# Altium footprint library gost_lib_footpr.PcbLib: 34 footprints (part 2 of 3)
Each footprint in its own frame and in the unit in brackets; x right, y up, seen from the top. Pads: shape width x height; smd on the part's side, far side on the other; paste and mask are expansions set on the pad; w line width, h text height; cw(c..) or ccw(c..) is an arc to the next point about the centre after c.
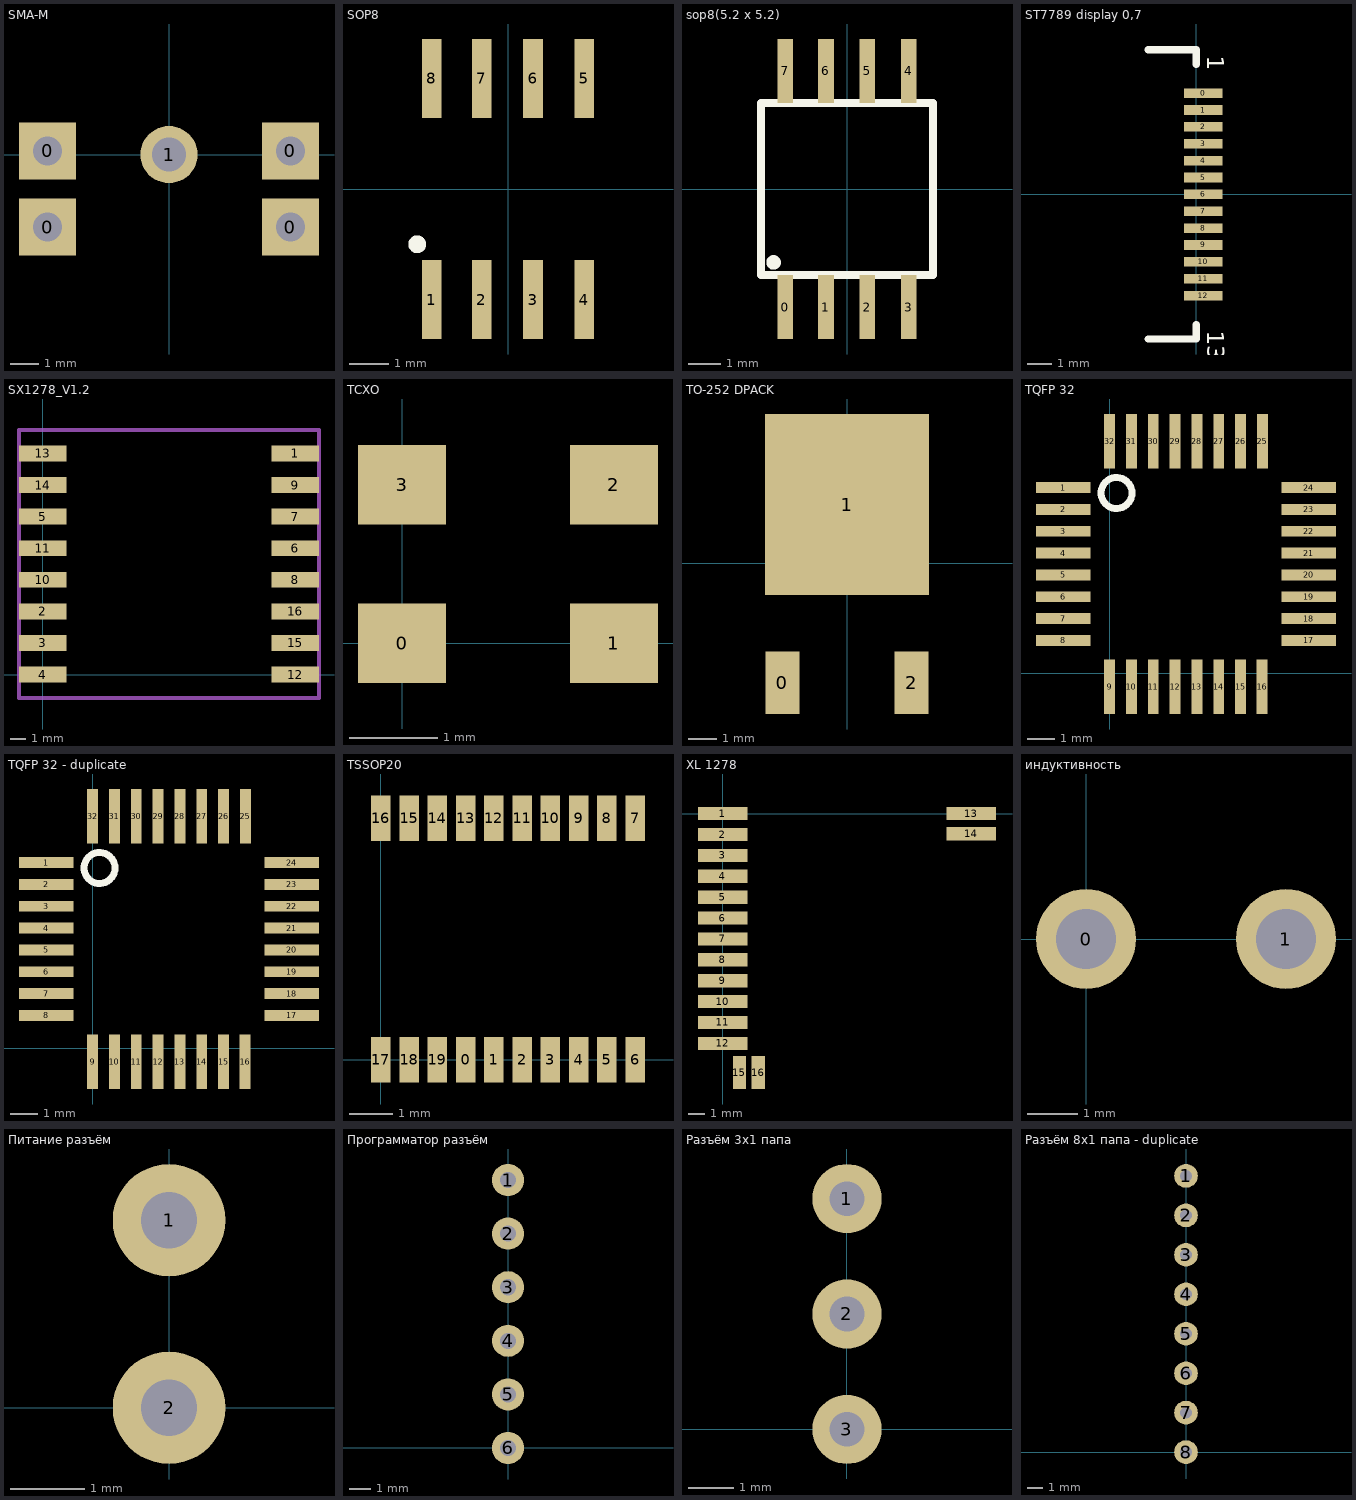
[diagram p1: the footprints below, top view; thin cyan lines are the x and y axes]

## SMA-M [mm]
pads (5):
  rect 2x2 hole 1.02 square: 0(-4.25,-2.54) 0(-4.25,0.13) 0(4.25,-2.54) 0(4.25,0.13)
  round 2 hole 1.2: 1(0,0)

## SOP8 [mm]
pads (8):
  rect 0.5x2 smd: 1(-1.935,-2.8) 2(-0.665,-2.8) 3(0.635,-2.8) 4(1.935,-2.8) 5(1.935,2.8) 6(0.635,2.8) 7(-0.665,2.8) 8(-1.935,2.8)
Top Overlay:
  circle w0.254: c-2.3,-1.4 r0.1
3D body "SO8-L.step": height 1.7, standoff 0, extent -2.522,-3.099 2.482,3.099

## sop8(5.2 x 5.2) [mm]
pads (8):
  rect 0.5x2 smd: 0(-1.935,-3.7) 1(-0.665,-3.7) 2(0.635,-3.7) 3(1.935,-3.7) 4(1.935,3.7) 5(0.635,3.7) 6(-0.665,3.7) 7(-1.935,3.7)
Top Overlay:
  circle w0.254: c-2.3,-2.3 r0.1
  lines w0.254: -2.7,-2.7 2.7,-2.7 2.7,2.7 -2.7,2.7 -2.7,-2.7
3D body "SO8-L.step": height 1.7, standoff 0, extent -2.502,-3.099 2.502,3.099

## ST7789 display 0,7 [mm]
pads (13):
  rect 1.6x0.4 smd: 0(0.3,4.2) 1(0.3,3.5) 2(0.3,2.8) 3(0.3,2.1) 4(0.3,1.4) 5(0.3,0.7) 6(0.3,0) 7(0.3,-0.7) 8(0.3,-1.4) 9(0.3,-2.1) 10(0.3,-2.8) 11(0.3,-3.5) 12(0.3,-4.2)
Top Overlay:
  lines w0.3: -2,-6 0,-6 0,-5.4 ; -2,6 0,6 0,5.4
  text "13" at 0.454,-5.654 h0.7
  text "1" at 0.454,5.746 h0.7

## SX1278_V1.2 [mm]
pads (16):
  rect 3x1 smd: 1(16,14) 2(0,4) 3(0,2) 4(0,0) 5(0,10) 6(16,8) 7(16,10) 8(16,6) 9(16,12) 10(0,6) 11(0,8) 12(16,0) 13(0,14) 14(0,12) 15(16,2) 16(16,4)
Mechanical 1:
  lines w0.254: -1.5,-1.5 17.5,-1.5 17.5,15.5 -1.5,15.5 -1.5,-1.5
3D body: height 2, standoff 0.1, extent -1.5,-1.5 17.5,15.5
3D body: height 14, standoff 0, extent -0.5,13.5 0.5,14.5
3D body: height 44, standoff 14, extent -2.5,11.5 2.5,16.5

## TCXO [mm]
pads (4):
  rect 1x0.9 smd: 0(0,0) 1(2.4,0) 2(2.4,1.8) 3(0,1.8)
Mechanical 1:

## TO-252 DPACK [mm]
pads (3):
  rect 1.2x2.2 smd: 0(-2.28,-4.23) 2(2.28,-4.23)
  rect 5.8x6.4 smd: 1(0,2.07)
3D body "TO-252.step": height 2.3, standoff 0, extent -3.29,-4.673 3.29,5.027

## TQFP 32 [mm]
pads (32):
  rect 2x0.4 smd: 1(-1.7,6.8) 2(-1.7,6) 3(-1.7,5.2) 4(-1.7,4.4) 5(-1.7,3.6) 6(-1.7,2.8) 7(-1.7,2) 8(-1.7,1.2) 17(7.3,1.2) 18(7.3,2) 19(7.3,2.8) 20(7.3,3.6) 21(7.3,4.4) 22(7.3,5.2) 23(7.3,6) 24(7.3,6.8)
  rect 0.4x2 smd: 9(0,-0.5) 10(0.8,-0.5) 11(1.6,-0.5) 12(2.4,-0.5) 13(3.2,-0.5) 14(4,-0.5) 15(4.8,-0.5) 16(5.588,-0.5) 25(5.6,8.5) 26(4.8,8.5) 27(4,8.5) 28(3.2,8.5) 29(2.4,8.5) 30(1.6,8.5) 31(0.8,8.5) 32(0,8.5)
Top Overlay:
  circle w0.254: c0.254,6.604 r0.568
3D body: height 1.2, standoff 0.1, extent -0.609,0.635 6.096,7.366

## TQFP 32 - duplicate [mm]
pads (32):
  rect 2x0.4 smd: 1(-1.7,6.8) 2(-1.7,6) 3(-1.7,5.2) 4(-1.7,4.4) 5(-1.7,3.6) 6(-1.7,2.8) 7(-1.7,2) 8(-1.7,1.2) 17(7.3,1.2) 18(7.3,2) 19(7.3,2.8) 20(7.3,3.6) 21(7.3,4.4) 22(7.3,5.2) 23(7.3,6) 24(7.3,6.8)
  rect 0.4x2 smd: 9(0,-0.5) 10(0.8,-0.5) 11(1.6,-0.5) 12(2.4,-0.5) 13(3.2,-0.5) 14(4,-0.5) 15(4.8,-0.5) 16(5.588,-0.5) 25(5.6,8.5) 26(4.8,8.5) 27(4,8.5) 28(3.2,8.5) 29(2.4,8.5) 30(1.6,8.5) 31(0.8,8.5) 32(0,8.5)
Top Overlay:
  circle w0.254: c0.254,6.604 r0.568
3D body "TQFP-32.STEP": height 1.1, standoff 0, extent -1.7,-0.5 7.3,8.5

## TSSOP20 [mm]
pads (20):
  rect 0.45x1.05 smd: 0(1.95,0) 1(2.6,0) 2(3.25,0) 3(3.9,0) 4(4.55,0) 5(5.2,0) 6(5.85,0) 7(5.85,5.55) 8(5.2,5.55) 9(4.55,5.55) 10(3.9,5.55) 11(3.25,5.55) 12(2.6,5.55) 13(1.95,5.55) 14(1.3,5.55) 15(0.65,5.55) 16(0,5.55) 17(0,0) 18(0.65,0) 19(1.3,0)
3D body "TSSOP-20.STEP": height 1, standoff 0, extent -0.325,-0.43 6.175,5.98

## XL 1278 [mm]
pads (16):
  rect 3x0.8 smd: 1(0,0) 2(0,-1.27) 3(0,-2.54) 4(0,-3.81) 5(0,-5.08) 6(0,-6.35) 7(0,-7.62) 8(0,-8.89) 9(0,-10.16) 10(0,-11.43) 11(0,-12.7) 12(0,-13.97) 13(15.113,0) 14(15.112,-1.221)
  rect 0.8x2 smd: 15(1.016,-15.748) 16(2.159,-15.748)
3D body: height 2, standoff 0.1, extent -0.508,-16.002 15.494,1.289

## индуктивность [mm]
pads (2):
  round 2 hole 1.2: 0(0,0) 1(4,0)

## Питание разъём [mil]
pads (2):
  round 60 hole 30: 1(0,100) 2(0,0)
3D body "1x2 Male Pin Header.STEP": height 414.96, standoff -118.11, extent -50,-50.1 48.43,150.1

## Программатор разъём [mil]
pads (6):
  round 60 hole 30: 1(0,500) 2(0,400) 3(0,300) 4(0,200) 5(0,100) 6(0,0)
3D body "1x6 Male Pin Header.STEP": height 414.96, standoff -118.11, extent -50,-50.2 48.43,550

## Разъём 3х1 папа [mil]
pads (3):
  round 60 hole 30: 1(0,200) 2(0,100) 3(0,0)
3D body "1x3 Male Pin Header.STEP": height 414.96, standoff -118.11, extent -49.21,-50 49.21,250.2

## Разъём 8х1 папа - duplicate [mil]
pads (8):
  round 60 hole 30: 1(0,700) 2(0,600) 3(0,500) 4(0,400) 5(0,300) 6(0,200) 7(0,100) 8(0,0)
3D body "1x8 Male Pin Header.STEP": height 414.96, standoff -118.11, extent -49.21,-50 49.21,750.2